# EAGLE library part 7405N (library EW_IC_74_Logic)
digital one-bit-wide inverter. Category: Gates Manufacturer: Generic
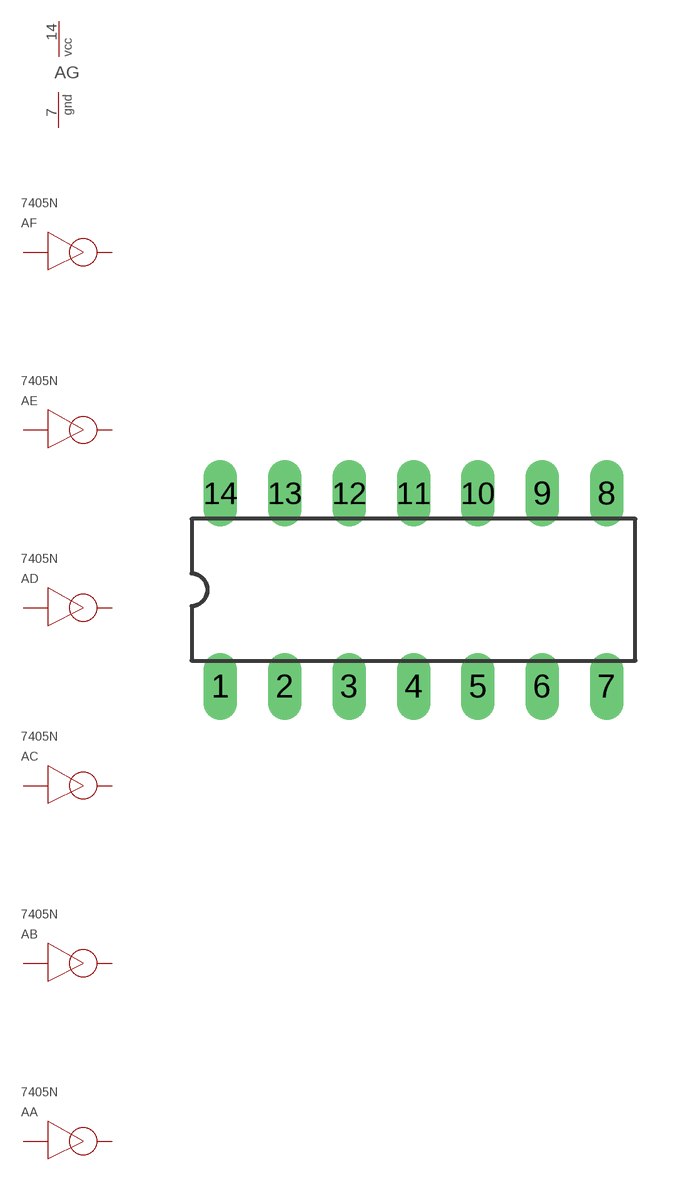
[diagram p125: symbol with the pads of DIL14; footprint DIL14]

Designator prefix A; gates A=INVERTER B=INVERTER C=INVERTER D=INVERTER E=INVERTER F=INVERTER G=PWRN

## 7405N  [DIL14]
1  A:IN  pwr
2  A:OUT  pwr
3  B:IN  pwr
4  B:OUT  pwr
5  C:IN  pwr
6  C:OUT  pwr
7  G:GND  pwr
8  D:OUT  pwr
9  D:IN  pwr
10  E:OUT  pwr
11  E:IN  pwr
12  F:OUT  pwr
13  F:IN  pwr
14  G:VCC  pwr

## Footprint DIL14 (pad centres in mm)
SOCKET Dual In Line
drill 0.813 long: 1 -7.62,-3.81; 2 -5.08,-3.81; 3 -2.54,-3.81; 4 0,-3.81; 5 2.54,-3.81; 6 5.08,-3.81; 7 7.62,-3.81; 8 7.62,3.81; 9 5.08,3.81; 10 2.54,3.81; 11 0,3.81; 12 -2.54,3.81; 13 -5.08,3.81; 14 -7.62,3.81